# Altium schematic symbol library LM2677.SchLib: 1 symbol
Pins are listed as number, name and electrical type; pins without a type are passive.

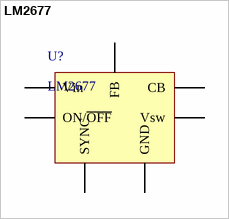
[diagram p0: symbol LM2677]

## LM2677
designator U?
High Efficiency 5-A Step-Down Voltage Regulator with Sync
pins: 1 Vsw, 2 Vin, 3 CB, 4 GND, 5 SYNC, 6 FB, 7 ON/~{OFF}